# Altium footprint library HARWIN_M20-7910642R.PcbLib: 1 footprints
Each footprint in its own frame and in the unit in brackets; x right, y up, seen from the top. Pads: shape width x height; smd on the part's side, far side on the other; paste and mask are expansions set on the pad; w line width, h text height; cw(c..) or ccw(c..) is an arc to the next point about the centre after c.
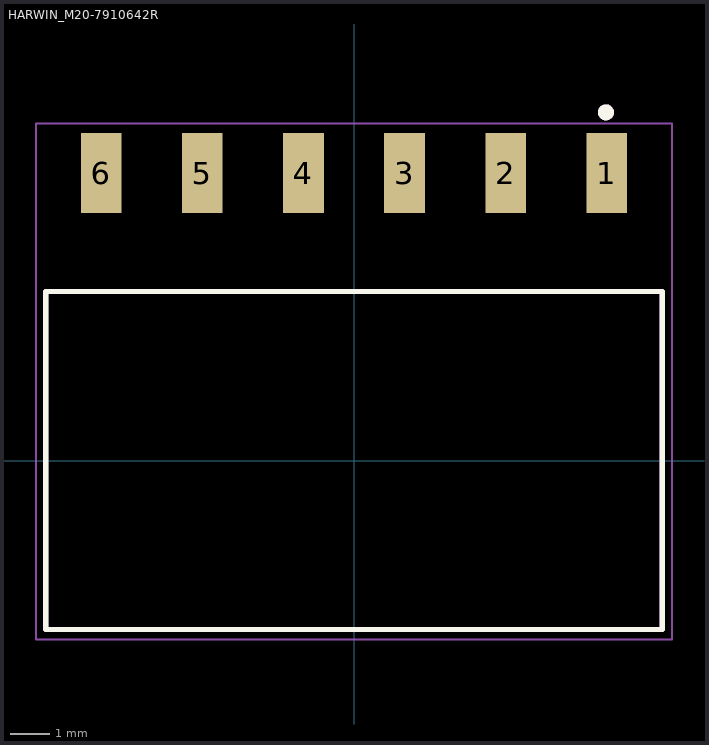
[diagram p0: the footprint, top view; thin cyan lines are the x and y axes]

## HARWIN_M20-7910642R [mm]
pads (6):
  rect 1.02x2 smd: 1(6.35,7.225) 2(3.81,7.225) 3(1.27,7.225) 4(-1.27,7.225) 5(-3.81,7.225) 6(-6.35,7.225)
Top Overlay:
  circle w0.2: c6.33,8.75 r0.1
  lines w0.127: -7.745,-4.25 7.745,-4.25 7.745,4.25 -7.745,4.25 -7.745,-4.25
Mechanical 13:
  circle w0.2: c6.33,8.75 r0.1
  lines w0.127: -7.745,-4.25 7.745,-4.25 7.745,4.25 -7.745,4.25 -7.745,-4.25
Mechanical 15:
  lines w0.05: -7.995,-4.5 7.995,-4.5 7.995,8.475 -7.995,8.475 -7.995,-4.5
3D body "step_temp.STEP": height 2.66, standoff 0.01, extent -7.745,-4.191 7.745,7.709